# EAGLE library part TJA1050 (library ELE3000)
High speed CAN transceiver
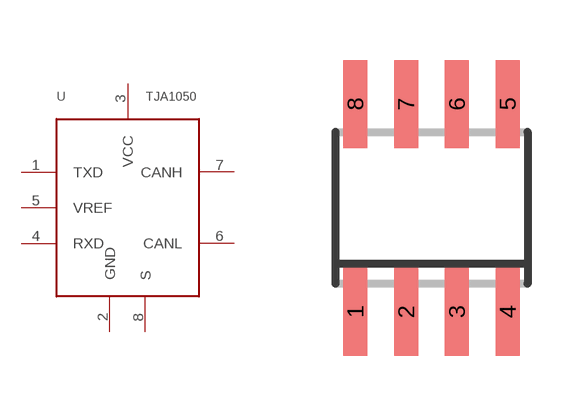
[diagram p5: symbol with the pads of SO08; footprint SO08]

Designator prefix U

## TJA1050T  [SO08]
1  TXD  in
2  GND  sup
3  VCC  sup
4  RXD  out
5  VREF  out
6  CANL
7  CANH
8  S  in

## Footprint SO08 (pad centres in mm)
Small Outline Package 8 NS Package M08A
smd 0.6 x 2.2: 1 -1.905,-2.6; 2 -0.635,-2.6; 3 0.635,-2.6; 4 1.905,-2.6; 5 1.905,2.6; 6 0.635,2.6; 7 -0.635,2.6; 8 -1.905,2.6